# Altium footprint library Crystal.PcbLib: 180 footprints (part 2 of 12)
Each footprint in its own frame and in the unit in brackets; x right, y up, seen from the top. Pads: shape width x height; smd on the part's side, far side on the other; paste and mask are expansions set on the pad; w line width, h text height; cw(c..) or ccw(c..) is an arc to the next point about the centre after c.
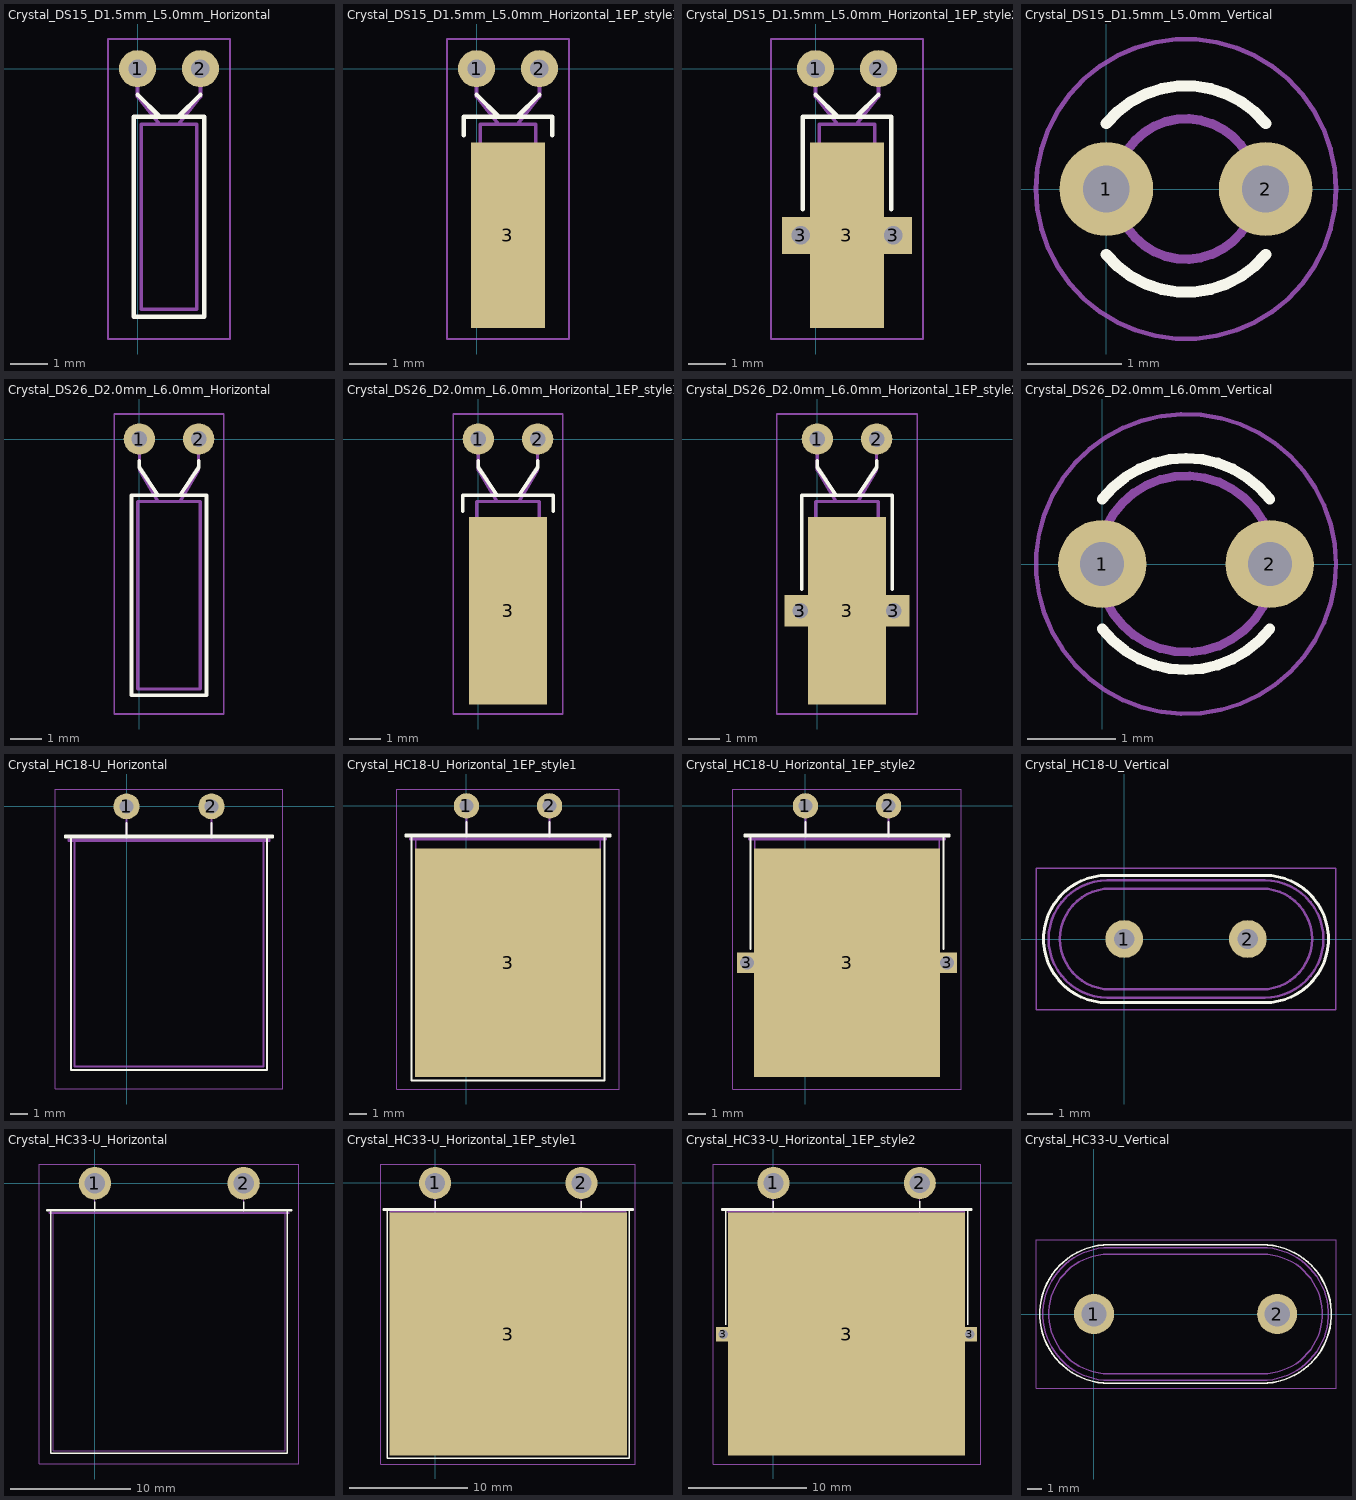
[diagram p1: the footprints below, top view; thin cyan lines are the x and y axes]

## Crystal_DS15_D1.5mm_L5.0mm_Horizontal [mm]
pads (2):
  round 1 hole 0.5: 1(0,0) 2(1.7,0)
F.SilkS:
  lines w0.12: 0,-0.7 0.6,-1.3 ; 1.1,-1.3 1.7,-0.7 ; -0.1,-6.7 -0.1,-1.3 1.8,-1.3 1.8,-6.7 -0.1,-6.7
F.CrtYd:
  lines w0.05: -0.8,-7.3 2.5,-7.3 2.5,0.8 -0.8,0.8 -0.8,-7.3
F.Fab:
  lines w0.1: 0,0 0,-0.75 0.6,-1.5 ; 1.1,-1.5 1.7,-0.75 1.7,0 ; 0.1,-6.5 1.6,-6.5 1.6,-1.5 0.1,-1.5 0.1,-6.5
  text "'.Designator'" at 1.504,-6.428 h0.6

## Crystal_DS15_D1.5mm_L5.0mm_Horizontal_1EP_style1 [mm]
pads (3):
  round 1 hole 0.5: 1(0,0) 2(1.7,0)
  rect 2x5 smd: 3(0.85,-4.5)
F.SilkS:
  lines w0.12: -0.35,-1.8 -0.35,-1.3 2.05,-1.3 2.05,-1.8 ; 0,-0.7 0.6,-1.3 ; 1.1,-1.3 1.7,-0.7
F.CrtYd:
  lines w0.05: -0.8,-7.3 2.5,-7.3 2.5,0.8 -0.8,0.8 -0.8,-7.3
F.Fab:
  lines w0.1: 0,0 0,-0.75 0.6,-1.5 ; 1.1,-1.5 1.7,-0.75 1.7,0 ; 0.1,-6.5 0.1,-1.5 1.6,-1.5 1.6,-6.5 0.1,-6.5
  text "'.Designator'" at 1.254,-6.428 h0.6

## Crystal_DS15_D1.5mm_L5.0mm_Horizontal_1EP_style2 [mm]
pads (5):
  round 1 hole 0.5: 1(0,0) 2(1.7,0)
  rect 1x1 hole 0.5: 3(-0.4,-4.5) 3(2.1,-4.5)
  rect 2x5 smd: 3(0.85,-4.5)
F.SilkS:
  lines w0.12: -0.35,-3.8 -0.35,-1.3 2.05,-1.3 2.05,-3.8 ; 0,-0.7 0.6,-1.3 ; 1.1,-1.3 1.7,-0.7
F.CrtYd:
  lines w0.05: -1.2,-7.3 -1.2,0.8 2.9,0.8 2.9,-7.3 -1.2,-7.3
F.Fab:
  lines w0.1: -0.4,-4.5 2.1,-4.5 ; 0,0 0,-0.75 0.6,-1.5 ; 1.1,-1.5 1.7,-0.75 1.7,0 ; 0.1,-6.5 1.6,-6.5 1.6,-1.5 0.1,-1.5 0.1,-6.5
  text "'.Designator'" at 1.672,-6.237 h0.8

## Crystal_DS15_D1.5mm_L5.0mm_Vertical [mm]
pads (2):
  round 1 hole 0.5: 1(0,0) 2(1.7,0)
F.SilkS:
  lines w0.12: 0,-0.7 ccw(c0.85,0) 1.701,-0.699 ; 0,0.7 cw(c0.85,0) 1.701,0.699
F.CrtYd:
  circle w0.05: c0.85,0 r1.6
F.Fab:
  circle w0.1: c0.85,0 r0.75
  text "'.Designator'" at 0.572,-0.504 h0.6
3D body "Crystal_DS15_D1.5mm_L5.0mm_Vertical.step": height 5.96, standoff -2.9, extent -0.1,-0.745 1.8,0.745

## Crystal_DS26_D2.0mm_L6.0mm_Horizontal [mm]
pads (2):
  round 1 hole 0.5: 1(0,0) 2(1.9,0)
F.SilkS:
  lines w0.12: 0,-0.7 0,-0.9 0.6,-1.8 ; 1.3,-1.8 1.9,-0.9 1.9,-0.7 ; -0.25,-8.2 2.15,-8.2 2.15,-1.8 -0.25,-1.8 -0.25,-8.2
F.CrtYd:
  lines w0.05: -0.8,-8.8 -0.8,0.8 2.7,0.8 2.7,-8.8 -0.8,-8.8
F.Fab:
  lines w0.1: 0,0 0,-1 0.6,-2 ; 1.3,-2 1.9,-1 1.9,0 ; -0.05,-8 -0.05,-2 1.95,-2 1.95,-8 -0.05,-8
  text "'.Designator'" at 1.588,-7.583 h0.7

## Crystal_DS26_D2.0mm_L6.0mm_Horizontal_1EP_style1 [mm]
pads (3):
  round 1 hole 0.5: 1(0,0) 2(1.9,0)
  rect 2.5x6 smd: 3(0.95,-5.5)
F.SilkS:
  lines w0.12: -0.5,-2.3 -0.5,-1.8 2.4,-1.8 2.4,-2.3 ; 0,-0.7 0,-0.9 0.6,-1.8 ; 1.3,-1.8 1.9,-0.9 1.9,-0.7
F.CrtYd:
  lines w0.05: -0.8,-8.8 2.7,-8.8 2.7,0.8 -0.8,0.8 -0.8,-8.8
F.Fab:
  lines w0.1: 0,0 0,-1 0.6,-2 ; 1.3,-2 1.9,-1 1.9,0 ; -0.05,-8 -0.05,-2 1.95,-2 1.95,-8 -0.05,-8
  text "'.Designator'" at 1.588,-8.083 h0.7

## Crystal_DS26_D2.0mm_L6.0mm_Horizontal_1EP_style2 [mm]
pads (5):
  round 1 hole 0.5: 1(0,0) 2(1.9,0)
  rect 1x1 hole 0.5: 3(-0.55,-5.5) 3(2.45,-5.5)
  rect 2.5x6 smd: 3(0.95,-5.5)
F.SilkS:
  lines w0.12: -0.5,-4.8 -0.5,-1.8 2.4,-1.8 2.4,-4.8 ; 0,-0.7 0,-0.9 0.6,-1.8 ; 1.3,-1.8 1.9,-0.9 1.9,-0.7
F.CrtYd:
  lines w0.05: -1.3,-8.8 -1.3,0.8 3.2,0.8 3.2,-8.8 -1.3,-8.8
F.Fab:
  lines w0.1: -0.55,-5.5 2.45,-5.5 ; 0,0 0,-1 0.6,-2 ; 1.3,-2 1.9,-1 1.9,0 ; -0.05,-8 -0.05,-2 1.95,-2 1.95,-8 -0.05,-8
  text "'.Designator'" at 0.09,-6.547 h1

## Crystal_DS26_D2.0mm_L6.0mm_Vertical [mm]
pads (2):
  round 1 hole 0.5: 1(0,0) 2(1.9,0)
F.SilkS:
  lines w0.12: 0,-0.733 ccw(c0.95,0) 1.9,-0.733 ; 0,0.733 cw(c0.95,0) 1.9,0.733
F.CrtYd:
  circle w0.05: c0.95,0 r1.7
F.Fab:
  circle w0.1: c0.95,0 r1
  text "'.Designator'" at 0.667,-0.588 h0.7
3D body "Crystal_DS26_D2.0mm_L6.0mm_Vertical.step": height 6.96, standoff -2.9, extent -0.1,-0.993 2,0.993

## Crystal_HC18-U_Horizontal [mm]
pads (2):
  round 1.5 hole 0.8: 1(0,0) 2(4.9,0)
F.SilkS:
  lines w0.12: 0,-1.8 0,-0.95 ; 4.9,-1.8 4.9,-0.95 ; -3.55,-1.8 8.45,-1.8 8.45,-1.68 -3.55,-1.68 -3.55,-1.8 ; -3.2,-15.2 8.1,-15.2 8.1,-1.8 -3.2,-1.8 -3.2,-15.2
F.CrtYd:
  lines w0.05: -4.1,-16.3 -4.1,1 9,1 9,-16.3 -4.1,-16.3
F.Fab:
  lines w0.1: 0,-2 0,-1 0,0 ; 4.9,-2 4.9,-1 4.9,0 ; -3.35,-2 8.25,-2 8.25,-1.9 -3.35,-1.9 -3.35,-2 ; -3,-15 7.9,-15 7.9,-2 -3,-2 -3,-15
  text "'.Designator'" at -1.797,-5.84 h1
3D body "Crystal_HC18-U_Horizontal.step": height 4.75, standoff -3, extent -3,-15 7.9,0.248

## Crystal_HC18-U_Horizontal_1EP_style1 [mm]
pads (3):
  round 1.5 hole 0.8: 1(0,0) 2(4.9,0)
  rect 11x13.5 smd: 3(2.45,-9.25)
F.SilkS:
  lines w0.12: 0,-1.8 0,-0.95 ; 4.9,-1.8 4.9,-0.95 ; -3.6,-1.8 8.5,-1.8 8.5,-1.68 -3.6,-1.68 -3.6,-1.8 ; -3.25,-16.2 8.15,-16.2 8.15,-1.8 -3.25,-1.8 -3.25,-16.2
F.CrtYd:
  lines w0.05: -4.1,-16.7 -4.1,1 9,1 9,-16.7 -4.1,-16.7
F.Fab:
  lines w0.1: 0,-2 0,-1 0,0 ; 4.9,-2 4.9,-1 4.9,0 ; -3.35,-2 8.25,-2 8.25,-1.9 -3.35,-1.9 -3.35,-2 ; -3,-15 -3,-2 7.9,-2 7.9,-15 -3,-15
  text "'.Designator'" at -1.597,-8.465 h1
3D body "Crystal_HC18-U_Horizontal_1EP_style1.step": height 4.75, standoff -3, extent -3,-15 7.9,0.248

## Crystal_HC18-U_Horizontal_1EP_style2 [mm]
pads (5):
  round 1.5 hole 0.8: 1(0,0) 2(4.9,0)
  rect 1.2x1.2 hole 0.8: 3(-3.45,-9.25) 3(8.35,-9.25)
  rect 11x13.5 smd: 3(2.45,-9.25)
F.SilkS:
  lines w0.12: -3.25,-8.45 -3.25,-1.8 8.15,-1.8 8.15,-8.45 ; 0,-1.8 0,-0.95 ; 4.9,-1.8 4.9,-0.95 ; -3.6,-1.8 -3.6,-1.68 8.5,-1.68 8.5,-1.8 -3.6,-1.8
F.CrtYd:
  lines w0.05: -4.3,-16.7 -4.3,1 9.2,1 9.2,-16.7 -4.3,-16.7
F.Fab:
  lines w0.1: -3.45,-9.25 8.35,-9.25 ; 0,-2 0,-1 0,0 ; 4.9,-2 4.9,-1 4.9,0 ; -3.35,-2 8.25,-2 8.25,-1.9 -3.35,-1.9 -3.35,-2 ; -3,-15 7.9,-15 7.9,-2 -3,-2 -3,-15
  text "'.Designator'" at -1.597,-8.465 h1
3D body "Crystal_HC18-U_Horizontal_1EP_style2.step": height 4.75, standoff -3, extent -3,-15 7.9,0.248

## Crystal_HC18-U_Vertical [mm]
pads (2):
  round 1.5 hole 0.8: 1(0,0) 2(4.9,0)
F.SilkS:
  lines w0.12: -0.675,-2.525 cw(c-0.675,0) -0.675,2.525 5.575,2.525 cw(c5.575,0) 5.575,-2.525 -0.675,-2.525
F.CrtYd:
  lines w0.05: -3.5,-2.8 -3.5,2.8 8.4,2.8 8.4,-2.8 -3.5,-2.8
F.Fab:
  lines w0.1: -0.675,-2.325 cw(c-0.675,0) -0.675,2.325 5.575,2.325 cw(c5.575,0) 5.575,-2.325 -0.675,-2.325 ; -0.55,-2 cw(c-0.55,0) -0.55,2 5.45,2 cw(c5.45,0) 5.45,-2 -0.55,-2
  text "'.Designator'" at -1.597,-0.84 h1
3D body "Crystal_HC18-U_Vertical.step": height 13.1, standoff -2.9, extent -3,-2.325 7.9,2.325

## Crystal_HC33-U_Horizontal [mm]
pads (2):
  round 2.7 hole 1.7: 1(0,0) 2(12.34,0)
F.SilkS:
  lines w0.12: 0,-2.3 0,-1.55 ; 12.34,-2.3 12.34,-1.55 ; -3.995,-2.3 16.335,-2.3 16.335,-2.18 -3.995,-2.18 -3.995,-2.3 ; -3.645,-22.4 15.985,-22.4 15.985,-2.3 -3.645,-2.3 -3.645,-22.4
F.CrtYd:
  lines w0.05: -4.6,-23.3 -4.6,1.6 16.9,1.6 16.9,-23.3 -4.6,-23.3
F.Fab:
  lines w0.1: 0,-2.5 0,-1.25 0,0 ; 12.34,-2.5 12.34,-1.25 12.34,0 ; -3.795,-2.5 16.135,-2.5 16.135,-2.4 -3.795,-2.4 -3.795,-2.5 ; -3.445,-22.2 15.785,-22.2 15.785,-2.5 -3.445,-2.5 -3.445,-22.2
  text "'.Designator'" at 2.203,-9.84 h1
3D body "Crystal_HC33-U_Horizontal.step": height 9.04, standoff -3, extent -3.433,-22.2 15.773,0.695

## Crystal_HC33-U_Horizontal_1EP_style1 [mm]
pads (3):
  round 2.7 hole 1.7: 1(0,0) 2(12.34,0)
  rect 20x20.5 smd: 3(6.17,-12.75)
F.SilkS:
  lines w0.12: 0,-2.3 0,-1.55 ; 12.34,-2.3 12.34,-1.55 ; -4.38,-2.3 16.72,-2.3 16.72,-2.18 -4.38,-2.18 -4.38,-2.3 ; -4.03,-23.2 16.37,-23.2 16.37,-2.3 -4.03,-2.3 -4.03,-23.2
F.CrtYd:
  lines w0.05: -4.6,-23.7 16.9,-23.7 16.9,1.6 -4.6,1.6 -4.6,-23.7
F.Fab:
  lines w0.1: 0,-2.5 0,-1.25 0,0 ; 12.34,-2.5 12.34,-1.25 12.34,0 ; -3.795,-2.5 16.135,-2.5 16.135,-2.4 -3.795,-2.4 -3.795,-2.5 ; -3.445,-22.2 15.785,-22.2 15.785,-2.5 -3.445,-2.5 -3.445,-22.2
  text "'.Designator'" at 2.123,-11.665 h1
3D body "Crystal_HC33-U_Horizontal_1EP_style1.step": height 9.04, standoff -3, extent -3.433,-22.2 15.773,0.695

## Crystal_HC33-U_Horizontal_1EP_style2 [mm]
pads (5):
  round 2.7 hole 1.7: 1(0,0) 2(12.34,0)
  rect 1.2x1.2 hole 0.8: 3(-4.23,-12.75) 3(16.57,-12.75)
  rect 20x20.5 smd: 3(6.17,-12.75)
F.SilkS:
  lines w0.12: -4.03,-11.95 -4.03,-2.3 16.37,-2.3 16.37,-11.95 ; 0,-2.3 0,-1.55 ; 12.34,-2.3 12.34,-1.55 ; -4.38,-2.3 -4.38,-2.18 16.72,-2.18 16.72,-2.3 -4.38,-2.3
F.CrtYd:
  lines w0.05: -5.1,-23.7 17.5,-23.7 17.5,1.6 -5.1,1.6 -5.1,-23.7
F.Fab:
  lines w0.1: -4.23,-12.75 16.57,-12.75 ; 0,-2.5 0,-1.25 0,0 ; 12.34,-2.5 12.34,-1.25 12.34,0 ; -3.795,-2.5 16.135,-2.5 16.135,-2.4 -3.795,-2.4 -3.795,-2.5 ; -3.445,-22.2 -3.445,-2.5 15.785,-2.5 15.785,-22.2 -3.445,-22.2
  text "'.Designator'" at 2.123,-11.665 h1
3D body "Crystal_HC33-U_Horizontal_1EP_style2.step": height 9.04, standoff -3, extent -3.433,-22.2 15.773,0.695

## Crystal_HC33-U_Vertical [mm]
pads (2):
  round 2.7 hole 1.7: 1(0,0) 2(12.34,0)
F.SilkS:
  lines w0.12: 1.025,-4.67 cw(c1.025,0) 1.025,4.67 11.315,4.67 cw(c11.315,0) 11.315,-4.67 1.025,-4.67
F.CrtYd:
  lines w0.05: -3.9,-5 16.3,-5 16.3,5 -3.9,5 -3.9,-5
F.Fab:
  lines w0.1: 0.985,-4.025 cw(c0.985,0) 0.985,4.025 11.355,4.025 cw(c11.355,0) 11.355,-4.025 0.985,-4.025 ; 1.025,-4.47 cw(c1.025,0) 1.025,4.47 11.315,4.47 cw(c11.315,0) 11.315,-4.47 1.025,-4.47
  text "'.Designator'" at 2.123,-0.84 h1
3D body "Crystal_HC33-U_Vertical.step": height 19.8, standoff -2.9, extent -3.445,-4.47 15.785,4.47